# Altium integrated library con-elco.IntLib: 1 symbol
Pins are listed as number, name and electrical type; pins without a type are passive.

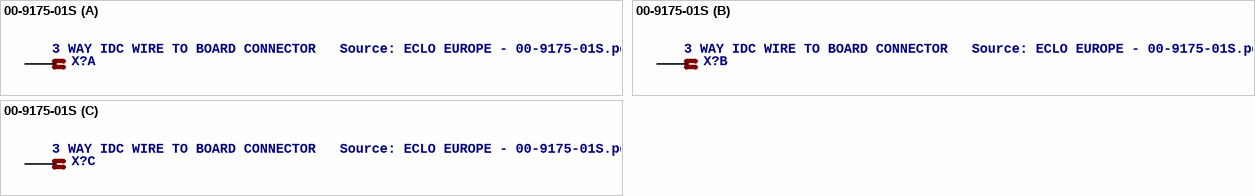
[diagram p0: symbol 00-9175-01S]

## 00-9175-01S
designator X?, comment 3 WAY IDC WIRE TO BOARD CONNECTOR   Source: ECLO EUROPE - 00-9175-01S.pdf
OC_FARNELL: unknown; OC_NEWARK: unknown
footprint 00-9175-01S
part A pins: 1A 1, 1B 1@1
part B pins: 2A 1, 2B 1@1
part C pins: 3A 1, 3B 1@1